# EAGLE library part EK-TM4C123GXL (library EK-TM4C123GXL)
ARM® Cortex®-M4F Based MCU TM4C123G LaunchPad™ Evaluation Kit Check prices <https://pricing.snapeda.com/parts/EK-TM4C123GXL/Texas%20Instruments/view-part?ref=eda>
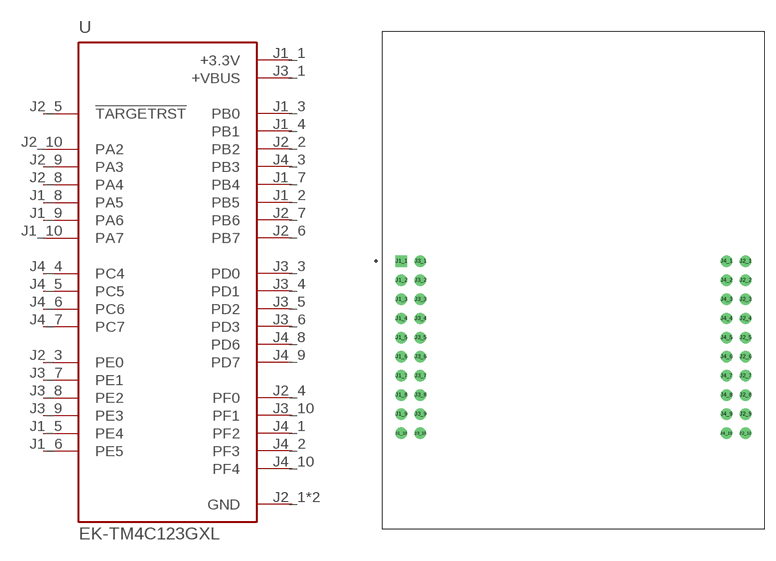
[diagram p0: symbol with the pads of MODULE_EK-TM4C123GXL; footprint MODULE_EK-TM4C123GXL]

Designator prefix U

## EK-TM4C123GXL (Availability: In Stock; Description: ARM® Cortex®-M4F Based MCU TM4C123G LaunchPad™ Evaluation Kit; MF: Texas Instruments; MP: EK-TM4C123GXL; Package: None; Price: None; Purchase-URL: https://pricing.snapeda.com/search/part/EK-TM4C123GXL/?ref=eda)  [MODULE_EK-TM4C123GXL]
J1_1  +3.3V  pwr
J1_2  PB5
J1_3  PB0
J1_4  PB1
J1_5  PE4
J1_6  PE5
J1_7  PB4
J1_8  PA5
J1_9  PA6
J1_10  PA7
J2_1  GND  pwr
J2_2  PB2
J2_3  PE0
J2_4  PF0
J2_5  !TARGETRST  in
J2_6  PB7
J2_7  PB6
J2_8  PA4
J2_9  PA3
J2_10  PA2
J3_1  +VBUS  pwr
J3_2  GND  pwr
J3_3  PD0
J3_4  PD1
J3_5  PD2
J3_6  PD3
J3_7  PE1
J3_8  PE2
J3_9  PE3
J3_10  PF1
J4_1  PF2
J4_2  PF3
J4_3  PB3
J4_4  PC4
J4_5  PC5
J4_6  PC6
J4_7  PC7
J4_8  PD6
J4_9  PD7
J4_10  PF4

## Footprint MODULE_EK-TM4C123GXL (pad centres in mm)
drill 0.89 pad 1.52 square: J1_1 -22.86,2.54
drill 0.89 pad 1.52: J1_2 -22.86,0; J1_3 -22.86,-2.54; J1_4 -22.86,-5.08; J1_5 -22.86,-7.62; J1_6 -22.86,-10.16; J1_7 -22.86,-12.7; J1_8 -22.86,-15.24; J1_9 -22.86,-17.78; J1_10 -22.86,-20.32; J2_1 22.86,2.54; J2_2 22.86,0; J2_3 22.86,-2.54; J2_4 22.86,-5.08; J2_5 22.86,-7.62; J2_6 22.86,-10.16; J2_7 22.86,-12.7; J2_8 22.86,-15.24; J2_9 22.86,-17.78; J2_10 22.86,-20.32; J3_1 -20.32,2.54; J3_2 -20.32,0; J3_3 -20.32,-2.54; J3_4 -20.32,-5.08; J3_5 -20.32,-7.62; J3_6 -20.32,-10.16; J3_7 -20.32,-12.7; J3_8 -20.32,-15.24; J3_9 -20.32,-17.78; J3_10 -20.32,-20.32; J4_1 20.32,2.54; J4_2 20.32,0; J4_3 20.32,-2.54; J4_4 20.32,-5.08; J4_5 20.32,-7.62; J4_6 20.32,-10.16; J4_7 20.32,-12.7; J4_8 20.32,-15.24; J4_9 20.32,-17.78; J4_10 20.32,-20.32